# EAGLE library part 62201021121 (library Header_R_ESP32)
CONN HEADER VERT 10POS 1.27MM Manufacturer's datasheet <https://katalog.we-online.com/em/datasheet/62201021121.pdf>
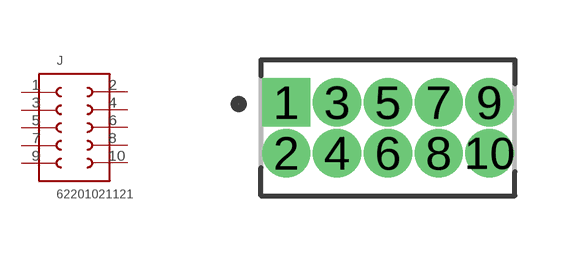
[diagram p41: symbol with the pads of 62201021121; footprint 62201021121]

Designator prefix J

## 62201021121 (CREATED_BY: PCBLayout.com; DIGIKEY_PART_NUMBER: 732-5374-ND; MANUFACTURER: Wurth Electronics Inc.; MPN: 62201021121)  [62201021121]
1  1  pas
2  2  pas
3  3  pas
4  4  pas
5  5  pas
6  6  pas
7  7  pas
8  8  pas
9  9  pas
10  10  pas

## Footprint 62201021121 (pad centres in mm)
drill 0.7 square: 1 -2.54,0.635
drill 0.7: 2 -2.54,-0.635; 3 -1.27,0.635; 4 -1.27,-0.635; 5 0,0.635; 6 0,-0.635; 7 1.27,0.635; 8 1.27,-0.635; 9 2.54,0.635; 10 2.54,-0.635